# EAGLE library part FPC-11WAY (library pimoroni-fpc)
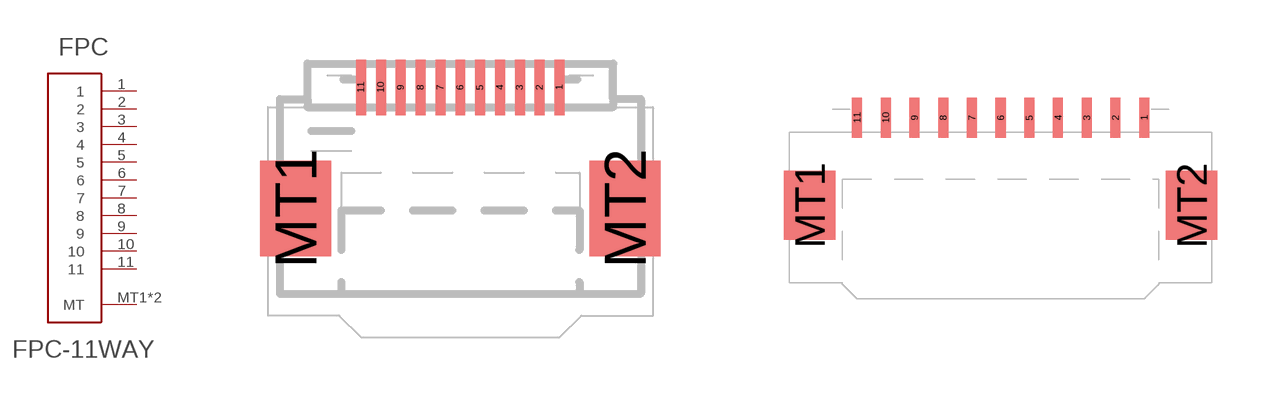
[diagram p6: symbol with the pads of FPC-0.5MM-11WAY; footprints FPC-0.5MM-11WAY, FPC-1.0MM-11WAY]

Designator prefix FPC

## FPC-11WAY0.5  [FPC-0.5MM-11WAY]
1  1
2  2
3  3
4  4
5  5
6  6
7  7
8  8
9  9
10  10
11  11
MT1  MT
MT2  MT

## FPC-11WAY1.0  [FPC-1.0MM-11WAY]
Pads as for FPC-0.5MM-11WAY

## Footprint FPC-0.5MM-11WAY (pad centres in mm)
smd 0.25 x 1.4: 1 2.5,0.7; 2 2,0.7; 3 1.5,0.7; 4 1,0.7; 5 0.5,0.7; 6 0,0.7; 7 -0.5,0.7; 8 -1,0.7; 9 -1.5,0.7; 10 -2,0.7; 11 -2.5,0.7
smd 1.8 x 2.4: MT1 -4.15,-2.35; MT2 4.15,-2.35

## Footprint FPC-1.0MM-11WAY (pad centres in mm)
smd 0.35 x 1.4: 1 5,0.7; 2 4,0.7; 3 3,0.7; 4 2,0.7; 5 1,0.7; 6 0,0.7; 7 -1,0.7; 8 -2,0.7; 9 -3,0.7; 10 -4,0.7; 11 -5,0.7
smd 1.8 x 2.4: MT1 -6.65,-2.35; MT2 6.65,-2.35